# EAGLE library part RJ11-6_SHIELDED (library Batebit)
RJ11 Jack Simple 6 pin RJ11 jack. Commonly found on CAT3 devices and Microchip programmers. SKU: PRT-00132
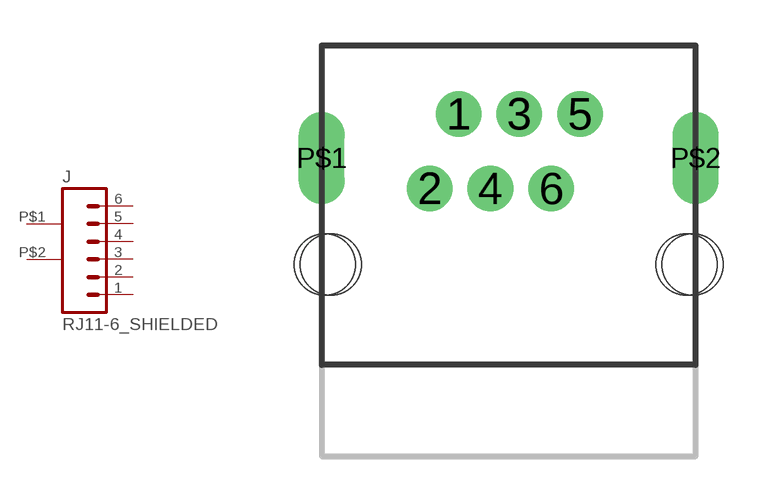
[diagram p4: symbol with the pads of RJ11-6+2G; footprint RJ11-6+2G]

Designator prefix J

## RJ11-6_SHIELDEDPTH  [RJ11-6+2G]
1  1  pas
2  2  pas
3  3  pas
4  4  pas
5  5  pas
6  6  pas
P$1  GND1
P$2  GND2

## Footprint RJ11-6+2G (pad centres in mm)
drill 0.7 pad 1.5: 1 -2.05,4.9; 2 -3,2.45; 3 -0.05,4.9; 4 -1,2.45; 5 1.95,4.9; 6 1,2.45
drill 1 long: P$1 -6.55,3.45; P$2 5.75,3.45
hole 2 at -6.45,-0.05
hole 2 at 5.65,-0.05
hole 2 at -6.25,-0.05
hole 2 at 5.45,-0.05